# Altium schematic symbol library SCH - DRIVER - LED - TI TPS610995DRV.SchLib: 1 symbol
Pins are listed as number, name and electrical type; pins without a type are passive.

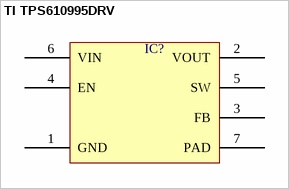
[diagram p0: symbol TI TPS610995DRV]

## TI TPS610995DRV
designator IC?  (value not drawn)
pins: 1 GND, 2 VOUT, 3 FB, 4 EN, 5 SW, 6 VIN, 7 PAD